# Altium integrated library xk_0805.IntLib: 1 symbol
Pins are listed as number, name and electrical type; pins without a type are passive.

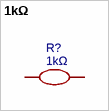
[diagram p0: symbol 1kΩ]

## 1kΩ
designator R?
Manufacturer: Ohmite; Manufacturer Part: APC0805B1K00N; nameAlias: Value; Contributor: lcsc; Supplier: LCSC; Supplier Part: C5553672; JLCPCB Part Class: Extended Part; spicePre: R; spiceSymbolName: APC0805B1K00N
footprint R0805
pins: 1, 2